# EAGLE library part PHB_1MM27_2X30_* (library _hhn_con_pinhead_box_1mm27)
Pin Header Box-Type, 1.27mm/0.5"/50mil Pitch, 2x30 Circuits Note: see library description for an important note about THT-version
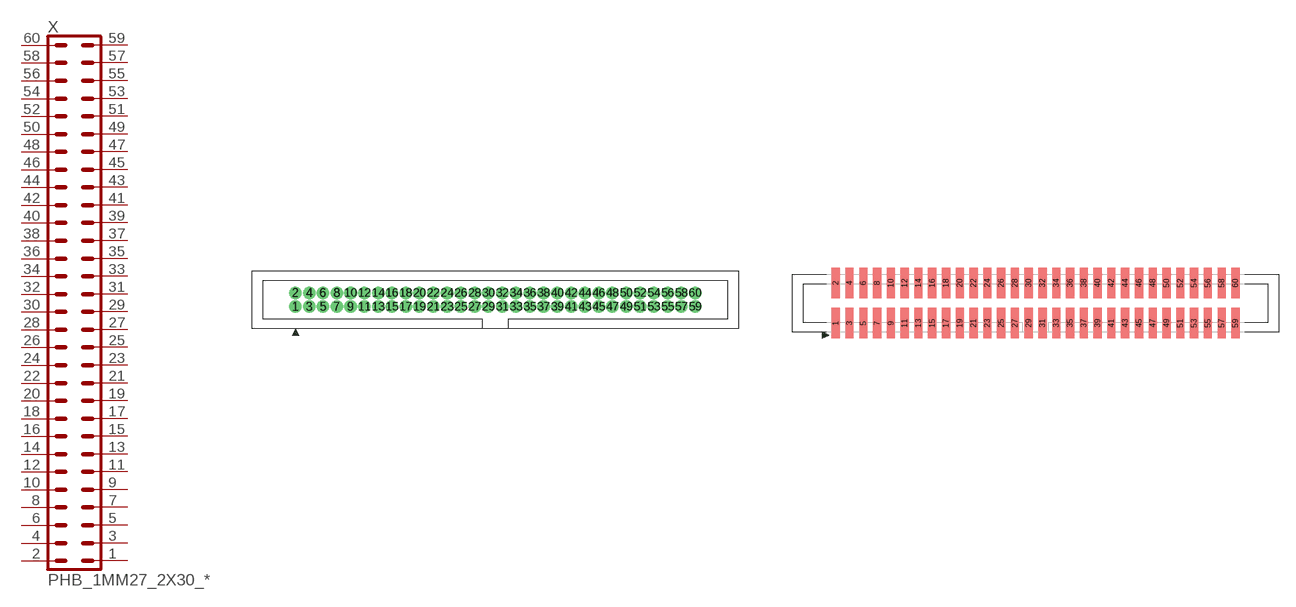
[diagram p5: symbol with the pads of PHB_1MM27_2X30_SNT; footprints PHB_1MM27_2X30_SNT, PHB_1MM27_2X30_SNS]

Designator prefix X

## PHB_1MM27_2X30_SNT  [PHB_1MM27_2X30_SNT]
1  1  pas
2  2  pas
3  3  pas
4  4  pas
5  5  pas
6  6  pas
7  7  pas
8  8  pas
9  9  pas
10  10  pas
11  11  pas
12  12  pas
13  13  pas
14  14  pas
15  15  pas
16  16  pas
17  17  pas
18  18  pas
19  19  pas
20  20  pas
21  21  pas
22  22  pas
23  23  pas
24  24  pas
25  25  pas
26  26  pas
27  27  pas
28  28  pas
29  29  pas
30  30  pas
31  31  pas
32  32  pas
33  33  pas
34  34  pas
35  35  pas
36  36  pas
37  37  pas
38  38  pas
39  39  pas
40  40  pas
41  41  pas
42  42  pas
43  43  pas
44  44  pas
45  45  pas
46  46  pas
47  47  pas
48  48  pas
49  49  pas
50  50  pas
51  51  pas
52  52  pas
53  53  pas
54  54  pas
55  55  pas
56  56  pas
57  57  pas
58  58  pas
59  59  pas
60  60  pas

## PHB_1MM27_2X30_SNS  [PHB_1MM27_2X30_SNS]
Pads as for PHB_1MM27_2X30_SNT

## Footprint PHB_1MM27_2X30_SNT (pad centres in mm)
Pin Header Box-Type, 1.27mm Pitch, 2x30 circuits, Straight, No Locking, THT Important Note: Diameter in this lbr is set to a specific value (NOT 'auto' = 0), this is ignored by actual eagle versions if drc-settings result in a bigger diameter. Workaround: DRC > Restring: set "min value" to 8mil (on top, bottom, inner) This requires an 8-mil process (pcb manufacturer)! You may increase %-value, e.g. to 25%
drill 0.65 pad 1 round: 1 -18.415,-0.635; 2 -18.415,0.635; 3 -17.145,-0.635; 4 -17.145,0.635; 5 -15.875,-0.635; 6 -15.875,0.635; 7 -14.605,-0.635; 8 -14.605,0.635; 9 -13.335,-0.635; 10 -13.335,0.635; 11 -12.065,-0.635; 12 -12.065,0.635; 13 -10.795,-0.635; 14 -10.795,0.635; 15 -9.525,-0.635; 16 -9.525,0.635; 17 -8.255,-0.635; 18 -8.255,0.635; 19 -6.985,-0.635; 20 -6.985,0.635; 21 -5.715,-0.635; 22 -5.715,0.635; 23 -4.445,-0.635; 24 -4.445,0.635; 25 -3.175,-0.635; 26 -3.175,0.635; 27 -1.905,-0.635; 28 -1.905,0.635; 29 -0.635,-0.635; 30 -0.635,0.635; 31 0.635,-0.635; 32 0.635,0.635; 33 1.905,-0.635; 34 1.905,0.635; 35 3.175,-0.635; 36 3.175,0.635; 37 4.445,-0.635; 38 4.445,0.635; 39 5.715,-0.635; 40 5.715,0.635; 41 6.985,-0.635; 42 6.985,0.635; 43 8.255,-0.635; 44 8.255,0.635; 45 9.525,-0.635; 46 9.525,0.635; 47 10.795,-0.635; 48 10.795,0.635; 49 12.065,-0.635; 50 12.065,0.635; 51 13.335,-0.635; 52 13.335,0.635; 53 14.605,-0.635; 54 14.605,0.635; 55 15.875,-0.635; 56 15.875,0.635; 57 17.145,-0.635; 58 17.145,0.635; 59 18.415,-0.635; 60 18.415,0.635

## Footprint PHB_1MM27_2X30_SNS (pad centres in mm)
Pin Header Box-Type, 1.27mm Pitch, 2x30 circuits, Straight, No Locking, SMT
smd 0.76 x 2.8: 1 -18.415,-1.85; 2 -18.415,1.85; 3 -17.145,-1.85; 4 -17.145,1.85; 5 -15.875,-1.85; 6 -15.875,1.85; 7 -14.605,-1.85; 8 -14.605,1.85; 9 -13.335,-1.85; 10 -13.335,1.85; 11 -12.065,-1.85; 12 -12.065,1.85; 13 -10.795,-1.85; 14 -10.795,1.85; 15 -9.525,-1.85; 16 -9.525,1.85; 17 -8.255,-1.85; 18 -8.255,1.85; 19 -6.985,-1.85; 20 -6.985,1.85; 21 -5.715,-1.85; 22 -5.715,1.85; 23 -4.445,-1.85; 24 -4.445,1.85; 25 -3.175,-1.85; 26 -3.175,1.85; 27 -1.905,-1.85; 28 -1.905,1.85; 29 -0.635,-1.85; 30 -0.635,1.85; 31 0.635,-1.85; 32 0.635,1.85; 33 1.905,-1.85; 34 1.905,1.85; 35 3.175,-1.85; 36 3.175,1.85; 37 4.445,-1.85; 38 4.445,1.85; 39 5.715,-1.85; 40 5.715,1.85; 41 6.985,-1.85; 42 6.985,1.85; 43 8.255,-1.85; 44 8.255,1.85; 45 9.525,-1.85; 46 9.525,1.85; 47 10.795,-1.85; 48 10.795,1.85; 49 12.065,-1.85; 50 12.065,1.85; 51 13.335,-1.85; 52 13.335,1.85; 53 14.605,-1.85; 54 14.605,1.85; 55 15.875,-1.85; 56 15.875,1.85; 57 17.145,-1.85; 58 17.145,1.85; 59 18.415,-1.85; 60 18.415,1.85